# Altium integrated library DMC2400UV-7.IntLib: 1 symbol
Pins are listed as number, name and electrical type; pins without a type are passive.

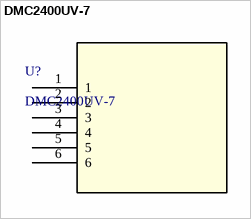
[diagram p0: symbol DMC2400UV-7]

## DMC2400UV-7
designator U?
Description; Manufacturer_Name: Diodes Inc; Copyright: Copyright (C) 2026 Ultra Librarian. All rights reserved.; Manufacturer_Part_Number: DMC2400UV-7; RefDes: RefDes; Type: Type
footprint SON_400UV-7_DIO
pins: 1, 2, 3, 4, 5, 6